# Altium integrated library ST Memory EEPROM Parallel.IntLib: 295 symbols (part 5 of 6)
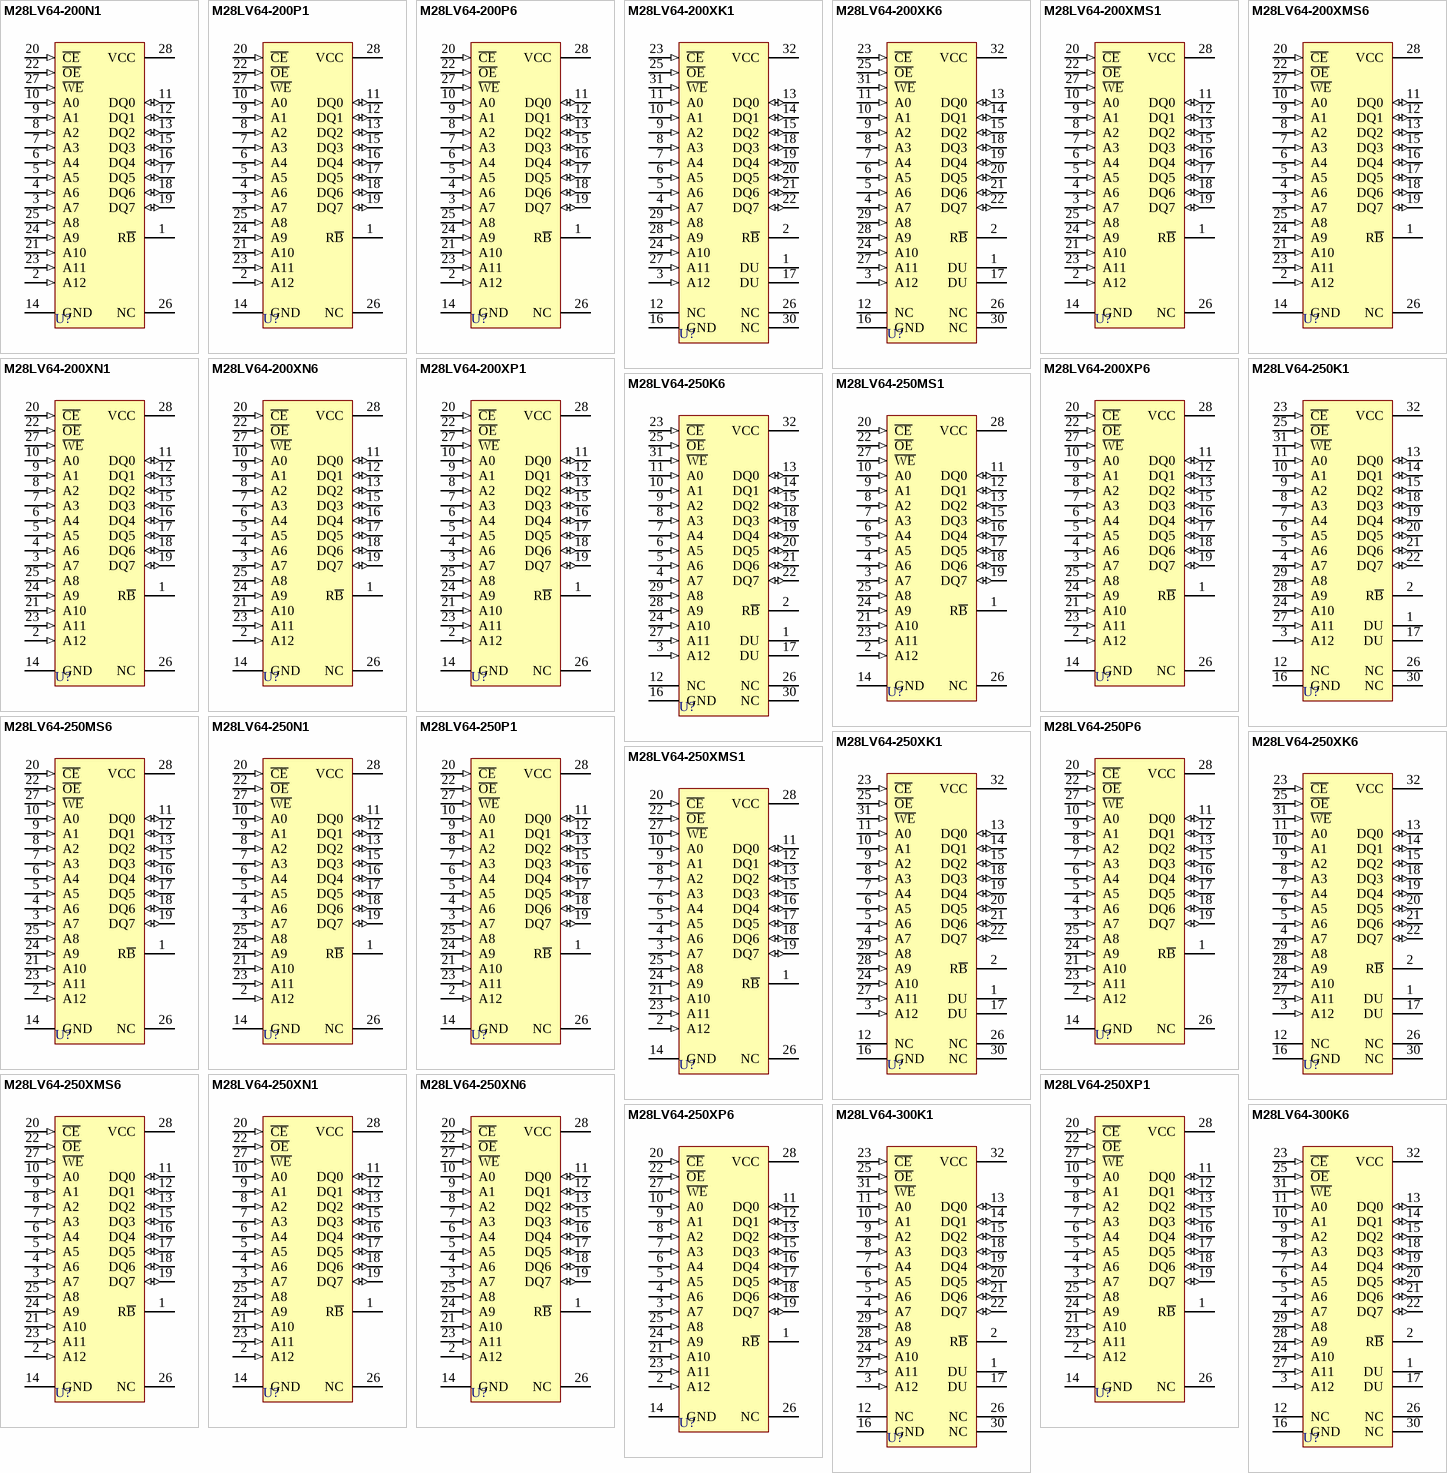
[diagram p14: symbols M28LV64-200N1 to M28LV64-300K6]

## M28LV64-250XK1
designator U?
64K (8K x 8) Low-Voltage Parallel EEPROM with Software Data Protection; Note: Do Not Use pins 1 and 17 (DU).; Published: 24-Aug-2001; LatestRevisionDate: 6-Jun-2005; LatestRevisionNote: Stylized 3D Model Added.; DatasheetDocument: May-1997; PackageDocument: Jun-1998; PackageReference: PLCC32; Publisher: Altium Limited; Code_JEDEC: MS-016-AE; Code_IPC: PLCC/R-32; ComponentLink1Description: Manufacturer Link; ComponentLink1URL: http://www.st.com/
footprint PLCC32 (Leaded Chip Carrier; 32 Leads; Body 11.4 x 14 mm)
3D model M28LV64-PLCC32 (Leaded Chip Carrier; 32 Leads; Body 11.4 x 14 mm)
pins: 1 DU, 2 R~{B}, 3 A12 (in), 4 A7 (in), 5 A6 (in), 6 A5 (in), 7 A4 (in), 8 A3 (in), 9 A2 (in), 10 A1 (in), 11 A0 (in), 12 NC, 13 DQ0 (io), 14 DQ1 (io), 15 DQ2 (io), 16 GND (power), 17 DU, 18 DQ3 (io), 19 DQ4 (io), 20 DQ5 (io), 21 DQ6 (io), 22 DQ7 (io), 23 ~{CE} (in), 24 A10 (in), 25 ~{OE} (in), 26 NC, 27 A11 (in), 28 A9 (in), 29 A8 (in), 30 NC, 31 ~{WE} (in), 32 VCC (power)

## M28LV64-250XK6
designator U?
64K (8K x 8) Low-Voltage Parallel EEPROM with Software Data Protection; Note: Do Not Use pins 1 and 17 (DU).; Published: 24-Aug-2001; LatestRevisionDate: 6-Jun-2005; LatestRevisionNote: Stylized 3D Model Added.; DatasheetDocument: May-1997; PackageDocument: Jun-1998; PackageReference: PLCC32; Publisher: Altium Limited; Code_JEDEC: MS-016-AE; Code_IPC: PLCC/R-32; ComponentLink1Description: Manufacturer Link; ComponentLink1URL: http://www.st.com/
footprint PLCC32 (Leaded Chip Carrier; 32 Leads; Body 11.4 x 14 mm)
3D model M28LV64-PLCC32 (Leaded Chip Carrier; 32 Leads; Body 11.4 x 14 mm)
pins: 1 DU, 2 R~{B}, 3 A12 (in), 4 A7 (in), 5 A6 (in), 6 A5 (in), 7 A4 (in), 8 A3 (in), 9 A2 (in), 10 A1 (in), 11 A0 (in), 12 NC, 13 DQ0 (io), 14 DQ1 (io), 15 DQ2 (io), 16 GND (power), 17 DU, 18 DQ3 (io), 19 DQ4 (io), 20 DQ5 (io), 21 DQ6 (io), 22 DQ7 (io), 23 ~{CE} (in), 24 A10 (in), 25 ~{OE} (in), 26 NC, 27 A11 (in), 28 A9 (in), 29 A8 (in), 30 NC, 31 ~{WE} (in), 32 VCC (power)

## M28LV64-250XMS1
designator U?
64K (8K x 8) Low-Voltage Parallel EEPROM with Software Data Protection; Published: 24-Aug-2001; LatestRevisionDate: 6-Jun-2005; LatestRevisionNote: Stylized 3D Model Added.; DatasheetDocument: May-1997; PackageDocument: Jul-2001; PackageReference: SO28; Publisher: Altium Limited; Code_IPC: SO28W; ComponentLink1Description: Manufacturer Link; ComponentLink1URL: http://www.st.com/
footprint SO28 (Small Outline, Plastic; 28 Leads; Body Width 7.5 mm; Pitch 1.27 mm)
3D model SO28 (Small Outline, Plastic; 28 Leads; Body Width 7.5 mm; Pitch 1.27 mm)
pins: 1 R~{B}, 2 A12 (in), 3 A7 (in), 4 A6 (in), 5 A5 (in), 6 A4 (in), 7 A3 (in), 8 A2 (in), 9 A1 (in), 10 A0 (in), 11 DQ0 (io), 12 DQ1 (io), 13 DQ2 (io), 14 GND (power), 15 DQ3 (io), 16 DQ4 (io), 17 DQ5 (io), 18 DQ6 (io), 19 DQ7 (io), 20 ~{CE} (in), 21 A10 (in), 22 ~{OE} (in), 23 A11 (in), 24 A9 (in), 25 A8 (in), 26 NC, 27 ~{WE} (in), 28 VCC (power)

## M28LV64-250XMS6
designator U?
64K (8K x 8) Low-Voltage Parallel EEPROM with Software Data Protection; Published: 24-Aug-2001; LatestRevisionDate: 6-Jun-2005; LatestRevisionNote: Stylized 3D Model Added.; DatasheetDocument: May-1997; PackageDocument: Jul-2001; PackageReference: SO28; Publisher: Altium Limited; Code_IPC: SO28W; ComponentLink1Description: Manufacturer Link; ComponentLink1URL: http://www.st.com/
footprint SO28 (Small Outline, Plastic; 28 Leads; Body Width 7.5 mm; Pitch 1.27 mm)
3D model SO28 (Small Outline, Plastic; 28 Leads; Body Width 7.5 mm; Pitch 1.27 mm)
pins: 1 R~{B}, 2 A12 (in), 3 A7 (in), 4 A6 (in), 5 A5 (in), 6 A4 (in), 7 A3 (in), 8 A2 (in), 9 A1 (in), 10 A0 (in), 11 DQ0 (io), 12 DQ1 (io), 13 DQ2 (io), 14 GND (power), 15 DQ3 (io), 16 DQ4 (io), 17 DQ5 (io), 18 DQ6 (io), 19 DQ7 (io), 20 ~{CE} (in), 21 A10 (in), 22 ~{OE} (in), 23 A11 (in), 24 A9 (in), 25 A8 (in), 26 NC, 27 ~{WE} (in), 28 VCC (power)

## M28LV64-250XN1
designator U?
64K (8K x 8) Low-Voltage Parallel EEPROM with Software Data Protection; Published: 24-Aug-2001; LatestRevisionDate: 6-Jun-2005; LatestRevisionNote: Stylized 3D Model Added.; DatasheetDocument: May-1997; PackageDocument: Jul-1998; PackageReference: TSOP28; Publisher: Altium Limited; ComponentLink1Description: Manufacturer Link; ComponentLink1URL: http://www.st.com/
footprint TSOP28 (Shrink Small Outline; 28 Leads; Body Width 11.8 mm; Pitch 0.55 mm)
3D model TSOP28 (Shrink Small Outline; 28 Leads; Body Width 11.8 mm; Pitch 0.55 mm)
pins: 1 R~{B}, 2 A12 (in), 3 A7 (in), 4 A6 (in), 5 A5 (in), 6 A4 (in), 7 A3 (in), 8 A2 (in), 9 A1 (in), 10 A0 (in), 11 DQ0 (io), 12 DQ1 (io), 13 DQ2 (io), 14 GND (power), 15 DQ3 (io), 16 DQ4 (io), 17 DQ5 (io), 18 DQ6 (io), 19 DQ7 (io), 20 ~{CE} (in), 21 A10 (in), 22 ~{OE} (in), 23 A11 (in), 24 A9 (in), 25 A8 (in), 26 NC, 27 ~{WE} (in), 28 VCC (power)

## M28LV64-250XN6
designator U?
64K (8K x 8) Low-Voltage Parallel EEPROM with Software Data Protection; Published: 24-Aug-2001; LatestRevisionDate: 6-Jun-2005; LatestRevisionNote: Stylized 3D Model Added.; DatasheetDocument: May-1997; PackageDocument: Jul-1998; PackageReference: TSOP28; Publisher: Altium Limited; ComponentLink1Description: Manufacturer Link; ComponentLink1URL: http://www.st.com/
footprint TSOP28 (Shrink Small Outline; 28 Leads; Body Width 11.8 mm; Pitch 0.55 mm)
3D model TSOP28 (Shrink Small Outline; 28 Leads; Body Width 11.8 mm; Pitch 0.55 mm)
pins: 1 R~{B}, 2 A12 (in), 3 A7 (in), 4 A6 (in), 5 A5 (in), 6 A4 (in), 7 A3 (in), 8 A2 (in), 9 A1 (in), 10 A0 (in), 11 DQ0 (io), 12 DQ1 (io), 13 DQ2 (io), 14 GND (power), 15 DQ3 (io), 16 DQ4 (io), 17 DQ5 (io), 18 DQ6 (io), 19 DQ7 (io), 20 ~{CE} (in), 21 A10 (in), 22 ~{OE} (in), 23 A11 (in), 24 A9 (in), 25 A8 (in), 26 NC, 27 ~{WE} (in), 28 VCC (power)

## M28LV64-250XP1
designator U?
64K (8K x 8) Low-Voltage Parallel EEPROM with Software Data Protection; Published: 24-Aug-2001; LatestRevisionDate: 6-Jun-2005; LatestRevisionNote: Stylized 3D Model Added.; DatasheetDocument: May-1997; PackageDocument: Jan-2003; PackageReference: PDIP28; Publisher: Altium Limited; ComponentLink1Description: Manufacturer Link; ComponentLink1URL: http://www.st.com/
footprint PDIP28 (DIP; 28 Leads; Row Spacing 15.24 mm; Pitch 2.54 mm)
3D model PDIP28 (DIP; 28 Leads; Row Spacing 15.24 mm; Pitch 2.54 mm)
pins: 1 R~{B}, 2 A12 (in), 3 A7 (in), 4 A6 (in), 5 A5 (in), 6 A4 (in), 7 A3 (in), 8 A2 (in), 9 A1 (in), 10 A0 (in), 11 DQ0 (io), 12 DQ1 (io), 13 DQ2 (io), 14 GND (power), 15 DQ3 (io), 16 DQ4 (io), 17 DQ5 (io), 18 DQ6 (io), 19 DQ7 (io), 20 ~{CE} (in), 21 A10 (in), 22 ~{OE} (in), 23 A11 (in), 24 A9 (in), 25 A8 (in), 26 NC, 27 ~{WE} (in), 28 VCC (power)

## M28LV64-250XP6
designator U?
64K (8K x 8) Low-Voltage Parallel EEPROM with Software Data Protection; Published: 24-Aug-2001; LatestRevisionDate: 6-Jun-2005; LatestRevisionNote: Stylized 3D Model Added.; DatasheetDocument: May-1997; PackageDocument: Jan-2003; PackageReference: PDIP28; Publisher: Altium Limited; ComponentLink1Description: Manufacturer Link; ComponentLink1URL: http://www.st.com/
footprint PDIP28 (DIP; 28 Leads; Row Spacing 15.24 mm; Pitch 2.54 mm)
3D model PDIP28 (DIP; 28 Leads; Row Spacing 15.24 mm; Pitch 2.54 mm)
pins: 1 R~{B}, 2 A12 (in), 3 A7 (in), 4 A6 (in), 5 A5 (in), 6 A4 (in), 7 A3 (in), 8 A2 (in), 9 A1 (in), 10 A0 (in), 11 DQ0 (io), 12 DQ1 (io), 13 DQ2 (io), 14 GND (power), 15 DQ3 (io), 16 DQ4 (io), 17 DQ5 (io), 18 DQ6 (io), 19 DQ7 (io), 20 ~{CE} (in), 21 A10 (in), 22 ~{OE} (in), 23 A11 (in), 24 A9 (in), 25 A8 (in), 26 NC, 27 ~{WE} (in), 28 VCC (power)

## M28LV64-300K1
designator U?
64K (8K x 8) Low-Voltage Parallel EEPROM with Software Data Protection; Note: Do Not Use pins 1 and 17 (DU).; Published: 24-Aug-2001; LatestRevisionDate: 6-Jun-2005; LatestRevisionNote: Stylized 3D Model Added.; DatasheetDocument: May-1997; PackageDocument: Jun-1998; PackageReference: PLCC32; Publisher: Altium Limited; Code_JEDEC: MS-016-AE; Code_IPC: PLCC/R-32; ComponentLink1Description: Manufacturer Link; ComponentLink1URL: http://www.st.com/
footprint PLCC32 (Leaded Chip Carrier; 32 Leads; Body 11.4 x 14 mm)
3D model M28LV64-PLCC32 (Leaded Chip Carrier; 32 Leads; Body 11.4 x 14 mm)
pins: 1 DU, 2 R~{B}, 3 A12 (in), 4 A7 (in), 5 A6 (in), 6 A5 (in), 7 A4 (in), 8 A3 (in), 9 A2 (in), 10 A1 (in), 11 A0 (in), 12 NC, 13 DQ0 (io), 14 DQ1 (io), 15 DQ2 (io), 16 GND (power), 17 DU, 18 DQ3 (io), 19 DQ4 (io), 20 DQ5 (io), 21 DQ6 (io), 22 DQ7 (io), 23 ~{CE} (in), 24 A10 (in), 25 ~{OE} (in), 26 NC, 27 A11 (in), 28 A9 (in), 29 A8 (in), 30 NC, 31 ~{WE} (in), 32 VCC (power)

## M28LV64-300K6
designator U?
64K (8K x 8) Low-Voltage Parallel EEPROM with Software Data Protection; Note: Do Not Use pins 1 and 17 (DU).; Published: 24-Aug-2001; LatestRevisionDate: 6-Jun-2005; LatestRevisionNote: Stylized 3D Model Added.; DatasheetDocument: May-1997; PackageDocument: Jun-1998; PackageReference: PLCC32; Publisher: Altium Limited; Code_JEDEC: MS-016-AE; Code_IPC: PLCC/R-32; ComponentLink1Description: Manufacturer Link; ComponentLink1URL: http://www.st.com/
footprint PLCC32 (Leaded Chip Carrier; 32 Leads; Body 11.4 x 14 mm)
3D model M28LV64-PLCC32 (Leaded Chip Carrier; 32 Leads; Body 11.4 x 14 mm)
pins: 1 DU, 2 R~{B}, 3 A12 (in), 4 A7 (in), 5 A6 (in), 6 A5 (in), 7 A4 (in), 8 A3 (in), 9 A2 (in), 10 A1 (in), 11 A0 (in), 12 NC, 13 DQ0 (io), 14 DQ1 (io), 15 DQ2 (io), 16 GND (power), 17 DU, 18 DQ3 (io), 19 DQ4 (io), 20 DQ5 (io), 21 DQ6 (io), 22 DQ7 (io), 23 ~{CE} (in), 24 A10 (in), 25 ~{OE} (in), 26 NC, 27 A11 (in), 28 A9 (in), 29 A8 (in), 30 NC, 31 ~{WE} (in), 32 VCC (power)

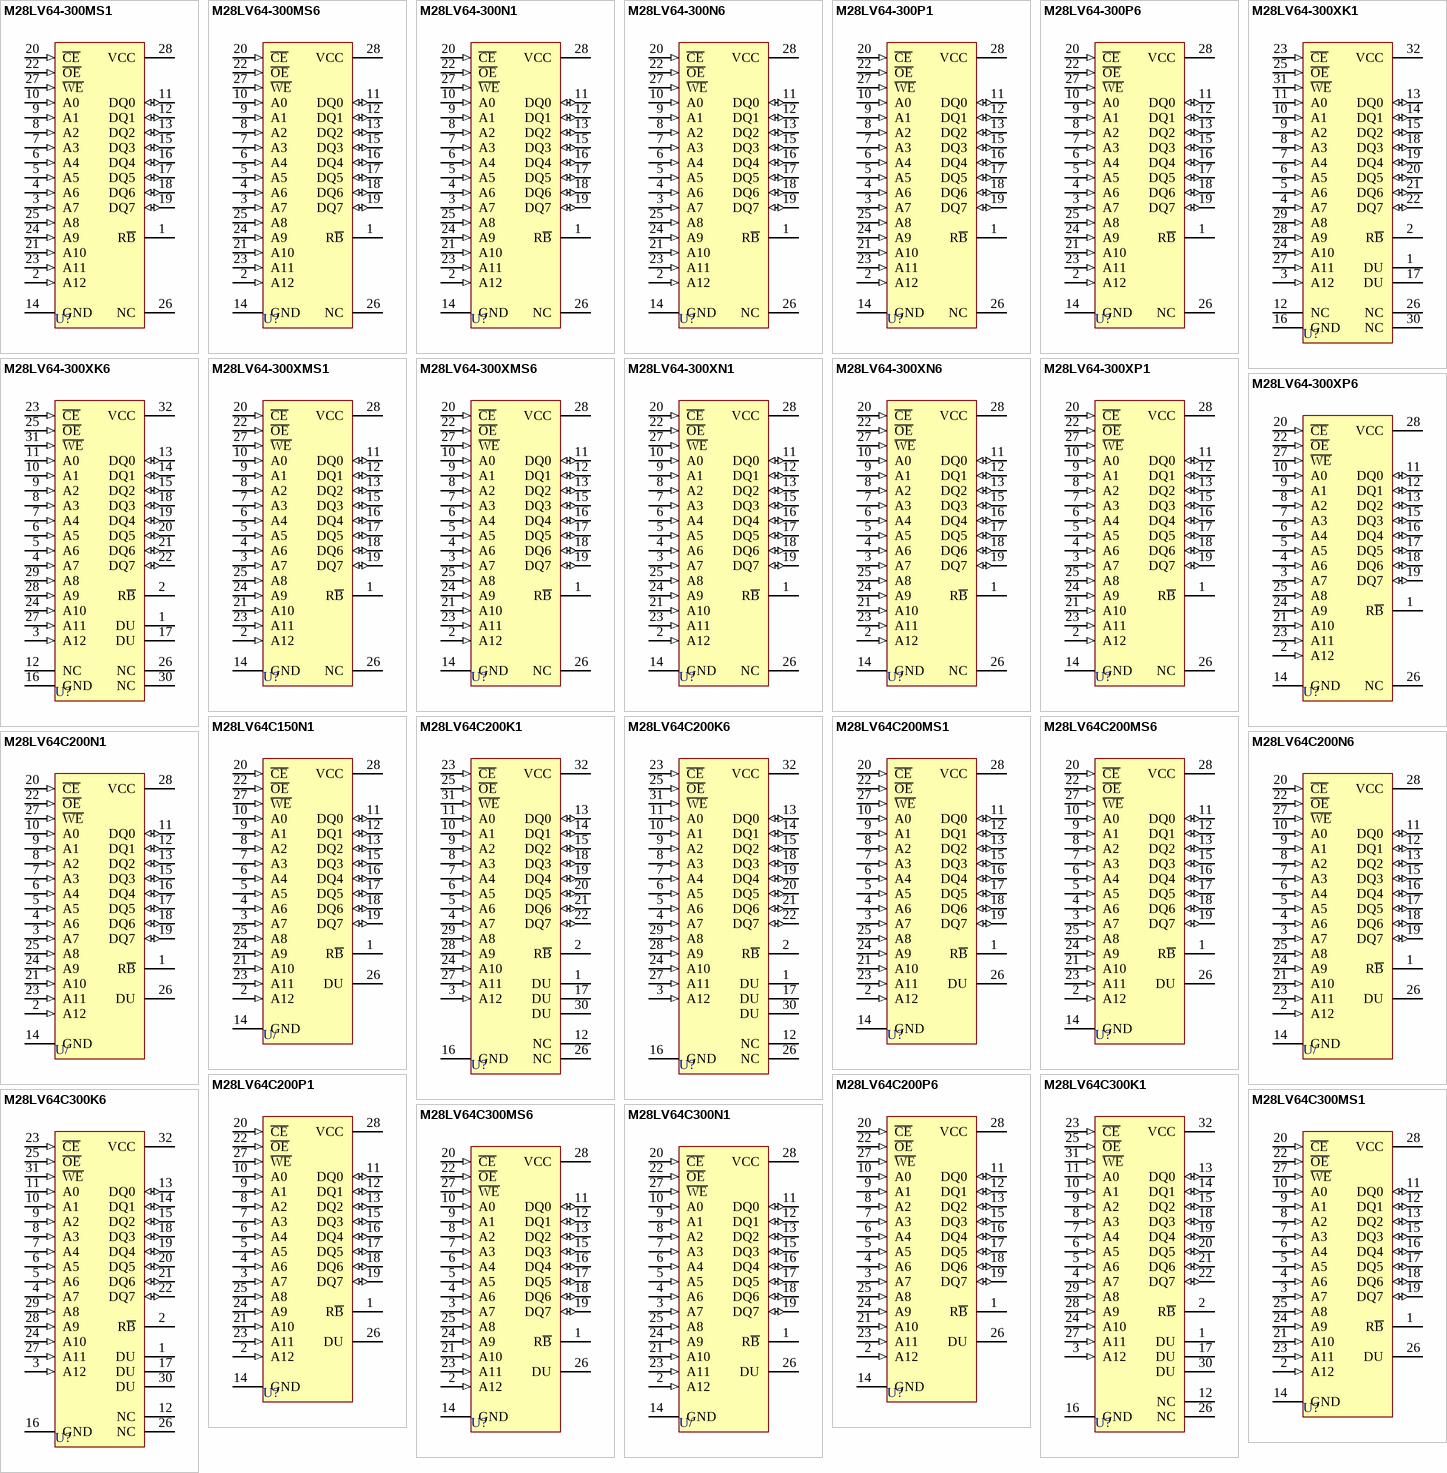
[diagram p8: symbols M28LV64-300MS1 to M28LV64C300N1]

## M28LV64-300MS1
designator U?
64K (8K x 8) Low-Voltage Parallel EEPROM with Software Data Protection; Published: 24-Aug-2001; LatestRevisionDate: 6-Jun-2005; LatestRevisionNote: Stylized 3D Model Added.; DatasheetDocument: May-1997; PackageDocument: Jul-2001; PackageReference: SO28; Publisher: Altium Limited; Code_IPC: SO28W; ComponentLink1Description: Manufacturer Link; ComponentLink1URL: http://www.st.com/
footprint SO28 (Small Outline, Plastic; 28 Leads; Body Width 7.5 mm; Pitch 1.27 mm)
3D model SO28 (Small Outline, Plastic; 28 Leads; Body Width 7.5 mm; Pitch 1.27 mm)
pins: 1 R~{B}, 2 A12 (in), 3 A7 (in), 4 A6 (in), 5 A5 (in), 6 A4 (in), 7 A3 (in), 8 A2 (in), 9 A1 (in), 10 A0 (in), 11 DQ0 (io), 12 DQ1 (io), 13 DQ2 (io), 14 GND (power), 15 DQ3 (io), 16 DQ4 (io), 17 DQ5 (io), 18 DQ6 (io), 19 DQ7 (io), 20 ~{CE} (in), 21 A10 (in), 22 ~{OE} (in), 23 A11 (in), 24 A9 (in), 25 A8 (in), 26 NC, 27 ~{WE} (in), 28 VCC (power)

## M28LV64-300MS6
designator U?
64K (8K x 8) Low-Voltage Parallel EEPROM with Software Data Protection; Published: 24-Aug-2001; LatestRevisionDate: 6-Jun-2005; LatestRevisionNote: Stylized 3D Model Added.; DatasheetDocument: May-1997; PackageDocument: Jul-2001; PackageReference: SO28; Publisher: Altium Limited; Code_IPC: SO28W; ComponentLink1Description: Manufacturer Link; ComponentLink1URL: http://www.st.com/
footprint SO28 (Small Outline, Plastic; 28 Leads; Body Width 7.5 mm; Pitch 1.27 mm)
3D model SO28 (Small Outline, Plastic; 28 Leads; Body Width 7.5 mm; Pitch 1.27 mm)
pins: 1 R~{B}, 2 A12 (in), 3 A7 (in), 4 A6 (in), 5 A5 (in), 6 A4 (in), 7 A3 (in), 8 A2 (in), 9 A1 (in), 10 A0 (in), 11 DQ0 (io), 12 DQ1 (io), 13 DQ2 (io), 14 GND (power), 15 DQ3 (io), 16 DQ4 (io), 17 DQ5 (io), 18 DQ6 (io), 19 DQ7 (io), 20 ~{CE} (in), 21 A10 (in), 22 ~{OE} (in), 23 A11 (in), 24 A9 (in), 25 A8 (in), 26 NC, 27 ~{WE} (in), 28 VCC (power)

## M28LV64-300N1
designator U?
64K (8K x 8) Low-Voltage Parallel EEPROM with Software Data Protection; Published: 24-Aug-2001; LatestRevisionDate: 6-Jun-2005; LatestRevisionNote: Stylized 3D Model Added.; DatasheetDocument: May-1997; PackageDocument: Jul-1998; PackageReference: TSOP28; Publisher: Altium Limited; ComponentLink1Description: Manufacturer Link; ComponentLink1URL: http://www.st.com/
footprint TSOP28 (Shrink Small Outline; 28 Leads; Body Width 11.8 mm; Pitch 0.55 mm)
3D model TSOP28 (Shrink Small Outline; 28 Leads; Body Width 11.8 mm; Pitch 0.55 mm)
pins: 1 R~{B}, 2 A12 (in), 3 A7 (in), 4 A6 (in), 5 A5 (in), 6 A4 (in), 7 A3 (in), 8 A2 (in), 9 A1 (in), 10 A0 (in), 11 DQ0 (io), 12 DQ1 (io), 13 DQ2 (io), 14 GND (power), 15 DQ3 (io), 16 DQ4 (io), 17 DQ5 (io), 18 DQ6 (io), 19 DQ7 (io), 20 ~{CE} (in), 21 A10 (in), 22 ~{OE} (in), 23 A11 (in), 24 A9 (in), 25 A8 (in), 26 NC, 27 ~{WE} (in), 28 VCC (power)

## M28LV64-300N6
designator U?
64K (8K x 8) Low-Voltage Parallel EEPROM with Software Data Protection; Published: 24-Aug-2001; LatestRevisionDate: 6-Jun-2005; LatestRevisionNote: Stylized 3D Model Added.; DatasheetDocument: May-1997; PackageDocument: Jul-1998; PackageReference: TSOP28; Publisher: Altium Limited; ComponentLink1Description: Manufacturer Link; ComponentLink1URL: http://www.st.com/
footprint TSOP28 (Shrink Small Outline; 28 Leads; Body Width 11.8 mm; Pitch 0.55 mm)
3D model TSOP28 (Shrink Small Outline; 28 Leads; Body Width 11.8 mm; Pitch 0.55 mm)
pins: 1 R~{B}, 2 A12 (in), 3 A7 (in), 4 A6 (in), 5 A5 (in), 6 A4 (in), 7 A3 (in), 8 A2 (in), 9 A1 (in), 10 A0 (in), 11 DQ0 (io), 12 DQ1 (io), 13 DQ2 (io), 14 GND (power), 15 DQ3 (io), 16 DQ4 (io), 17 DQ5 (io), 18 DQ6 (io), 19 DQ7 (io), 20 ~{CE} (in), 21 A10 (in), 22 ~{OE} (in), 23 A11 (in), 24 A9 (in), 25 A8 (in), 26 NC, 27 ~{WE} (in), 28 VCC (power)

## M28LV64-300P1
designator U?
64K (8K x 8) Low-Voltage Parallel EEPROM with Software Data Protection; Published: 24-Aug-2001; LatestRevisionDate: 6-Jun-2005; LatestRevisionNote: Stylized 3D Model Added.; DatasheetDocument: May-1997; PackageDocument: Jan-2003; PackageReference: PDIP28; Publisher: Altium Limited; ComponentLink1Description: Manufacturer Link; ComponentLink1URL: http://www.st.com/
footprint PDIP28 (DIP; 28 Leads; Row Spacing 15.24 mm; Pitch 2.54 mm)
3D model PDIP28 (DIP; 28 Leads; Row Spacing 15.24 mm; Pitch 2.54 mm)
pins: 1 R~{B}, 2 A12 (in), 3 A7 (in), 4 A6 (in), 5 A5 (in), 6 A4 (in), 7 A3 (in), 8 A2 (in), 9 A1 (in), 10 A0 (in), 11 DQ0 (io), 12 DQ1 (io), 13 DQ2 (io), 14 GND (power), 15 DQ3 (io), 16 DQ4 (io), 17 DQ5 (io), 18 DQ6 (io), 19 DQ7 (io), 20 ~{CE} (in), 21 A10 (in), 22 ~{OE} (in), 23 A11 (in), 24 A9 (in), 25 A8 (in), 26 NC, 27 ~{WE} (in), 28 VCC (power)

## M28LV64-300P6
designator U?
64K (8K x 8) Low-Voltage Parallel EEPROM with Software Data Protection; Published: 24-Aug-2001; LatestRevisionDate: 6-Jun-2005; LatestRevisionNote: Stylized 3D Model Added.; DatasheetDocument: May-1997; PackageDocument: Jan-2003; PackageReference: PDIP28; Publisher: Altium Limited; ComponentLink1Description: Manufacturer Link; ComponentLink1URL: http://www.st.com/
footprint PDIP28 (DIP; 28 Leads; Row Spacing 15.24 mm; Pitch 2.54 mm)
3D model PDIP28 (DIP; 28 Leads; Row Spacing 15.24 mm; Pitch 2.54 mm)
pins: 1 R~{B}, 2 A12 (in), 3 A7 (in), 4 A6 (in), 5 A5 (in), 6 A4 (in), 7 A3 (in), 8 A2 (in), 9 A1 (in), 10 A0 (in), 11 DQ0 (io), 12 DQ1 (io), 13 DQ2 (io), 14 GND (power), 15 DQ3 (io), 16 DQ4 (io), 17 DQ5 (io), 18 DQ6 (io), 19 DQ7 (io), 20 ~{CE} (in), 21 A10 (in), 22 ~{OE} (in), 23 A11 (in), 24 A9 (in), 25 A8 (in), 26 NC, 27 ~{WE} (in), 28 VCC (power)

## M28LV64-300XK1
designator U?
64K (8K x 8) Low-Voltage Parallel EEPROM with Software Data Protection; Note: Do Not Use pins 1 and 17 (DU).; Published: 24-Aug-2001; LatestRevisionDate: 6-Jun-2005; LatestRevisionNote: Stylized 3D Model Added.; DatasheetDocument: May-1997; PackageDocument: Jun-1998; PackageReference: PLCC32; Publisher: Altium Limited; Code_JEDEC: MS-016-AE; Code_IPC: PLCC/R-32; ComponentLink1Description: Manufacturer Link; ComponentLink1URL: http://www.st.com/
footprint PLCC32 (Leaded Chip Carrier; 32 Leads; Body 11.4 x 14 mm)
3D model M28LV64-PLCC32 (Leaded Chip Carrier; 32 Leads; Body 11.4 x 14 mm)
pins: 1 DU, 2 R~{B}, 3 A12 (in), 4 A7 (in), 5 A6 (in), 6 A5 (in), 7 A4 (in), 8 A3 (in), 9 A2 (in), 10 A1 (in), 11 A0 (in), 12 NC, 13 DQ0 (io), 14 DQ1 (io), 15 DQ2 (io), 16 GND (power), 17 DU, 18 DQ3 (io), 19 DQ4 (io), 20 DQ5 (io), 21 DQ6 (io), 22 DQ7 (io), 23 ~{CE} (in), 24 A10 (in), 25 ~{OE} (in), 26 NC, 27 A11 (in), 28 A9 (in), 29 A8 (in), 30 NC, 31 ~{WE} (in), 32 VCC (power)

## M28LV64-300XK6
designator U?
64K (8K x 8) Low-Voltage Parallel EEPROM with Software Data Protection; Note: Do Not Use pins 1 and 17 (DU).; Published: 24-Aug-2001; LatestRevisionDate: 6-Jun-2005; LatestRevisionNote: Stylized 3D Model Added.; DatasheetDocument: May-1997; PackageDocument: Jun-1998; PackageReference: PLCC32; Publisher: Altium Limited; Code_JEDEC: MS-016-AE; Code_IPC: PLCC/R-32; ComponentLink1Description: Manufacturer Link; ComponentLink1URL: http://www.st.com/
footprint PLCC32 (Leaded Chip Carrier; 32 Leads; Body 11.4 x 14 mm)
3D model M28LV64-PLCC32 (Leaded Chip Carrier; 32 Leads; Body 11.4 x 14 mm)
pins: 1 DU, 2 R~{B}, 3 A12 (in), 4 A7 (in), 5 A6 (in), 6 A5 (in), 7 A4 (in), 8 A3 (in), 9 A2 (in), 10 A1 (in), 11 A0 (in), 12 NC, 13 DQ0 (io), 14 DQ1 (io), 15 DQ2 (io), 16 GND (power), 17 DU, 18 DQ3 (io), 19 DQ4 (io), 20 DQ5 (io), 21 DQ6 (io), 22 DQ7 (io), 23 ~{CE} (in), 24 A10 (in), 25 ~{OE} (in), 26 NC, 27 A11 (in), 28 A9 (in), 29 A8 (in), 30 NC, 31 ~{WE} (in), 32 VCC (power)

## M28LV64-300XMS1
designator U?
64K (8K x 8) Low-Voltage Parallel EEPROM with Software Data Protection; Published: 24-Aug-2001; LatestRevisionDate: 6-Jun-2005; LatestRevisionNote: Stylized 3D Model Added.; DatasheetDocument: May-1997; PackageDocument: Jul-2001; PackageReference: SO28; Publisher: Altium Limited; Code_IPC: SO28W; ComponentLink1Description: Manufacturer Link; ComponentLink1URL: http://www.st.com/
footprint SO28 (Small Outline, Plastic; 28 Leads; Body Width 7.5 mm; Pitch 1.27 mm)
3D model SO28 (Small Outline, Plastic; 28 Leads; Body Width 7.5 mm; Pitch 1.27 mm)
pins: 1 R~{B}, 2 A12 (in), 3 A7 (in), 4 A6 (in), 5 A5 (in), 6 A4 (in), 7 A3 (in), 8 A2 (in), 9 A1 (in), 10 A0 (in), 11 DQ0 (io), 12 DQ1 (io), 13 DQ2 (io), 14 GND (power), 15 DQ3 (io), 16 DQ4 (io), 17 DQ5 (io), 18 DQ6 (io), 19 DQ7 (io), 20 ~{CE} (in), 21 A10 (in), 22 ~{OE} (in), 23 A11 (in), 24 A9 (in), 25 A8 (in), 26 NC, 27 ~{WE} (in), 28 VCC (power)

## M28LV64-300XMS6
designator U?
64K (8K x 8) Low-Voltage Parallel EEPROM with Software Data Protection; Published: 24-Aug-2001; LatestRevisionDate: 6-Jun-2005; LatestRevisionNote: Stylized 3D Model Added.; DatasheetDocument: May-1997; PackageDocument: Jul-2001; PackageReference: SO28; Publisher: Altium Limited; Code_IPC: SO28W; ComponentLink1Description: Manufacturer Link; ComponentLink1URL: http://www.st.com/
footprint SO28 (Small Outline, Plastic; 28 Leads; Body Width 7.5 mm; Pitch 1.27 mm)
3D model SO28 (Small Outline, Plastic; 28 Leads; Body Width 7.5 mm; Pitch 1.27 mm)
pins: 1 R~{B}, 2 A12 (in), 3 A7 (in), 4 A6 (in), 5 A5 (in), 6 A4 (in), 7 A3 (in), 8 A2 (in), 9 A1 (in), 10 A0 (in), 11 DQ0 (io), 12 DQ1 (io), 13 DQ2 (io), 14 GND (power), 15 DQ3 (io), 16 DQ4 (io), 17 DQ5 (io), 18 DQ6 (io), 19 DQ7 (io), 20 ~{CE} (in), 21 A10 (in), 22 ~{OE} (in), 23 A11 (in), 24 A9 (in), 25 A8 (in), 26 NC, 27 ~{WE} (in), 28 VCC (power)

## M28LV64-300XN1
designator U?
64K (8K x 8) Low-Voltage Parallel EEPROM with Software Data Protection; Published: 24-Aug-2001; LatestRevisionDate: 6-Jun-2005; LatestRevisionNote: Stylized 3D Model Added.; DatasheetDocument: May-1997; PackageDocument: Jul-1998; PackageReference: TSOP28; Publisher: Altium Limited; ComponentLink1Description: Manufacturer Link; ComponentLink1URL: http://www.st.com/
footprint TSOP28 (Shrink Small Outline; 28 Leads; Body Width 11.8 mm; Pitch 0.55 mm)
3D model TSOP28 (Shrink Small Outline; 28 Leads; Body Width 11.8 mm; Pitch 0.55 mm)
pins: 1 R~{B}, 2 A12 (in), 3 A7 (in), 4 A6 (in), 5 A5 (in), 6 A4 (in), 7 A3 (in), 8 A2 (in), 9 A1 (in), 10 A0 (in), 11 DQ0 (io), 12 DQ1 (io), 13 DQ2 (io), 14 GND (power), 15 DQ3 (io), 16 DQ4 (io), 17 DQ5 (io), 18 DQ6 (io), 19 DQ7 (io), 20 ~{CE} (in), 21 A10 (in), 22 ~{OE} (in), 23 A11 (in), 24 A9 (in), 25 A8 (in), 26 NC, 27 ~{WE} (in), 28 VCC (power)

## M28LV64-300XN6
designator U?
64K (8K x 8) Low-Voltage Parallel EEPROM with Software Data Protection; Published: 24-Aug-2001; LatestRevisionDate: 6-Jun-2005; LatestRevisionNote: Stylized 3D Model Added.; DatasheetDocument: May-1997; PackageDocument: Jul-1998; PackageReference: TSOP28; Publisher: Altium Limited; ComponentLink1Description: Manufacturer Link; ComponentLink1URL: http://www.st.com/
footprint TSOP28 (Shrink Small Outline; 28 Leads; Body Width 11.8 mm; Pitch 0.55 mm)
3D model TSOP28 (Shrink Small Outline; 28 Leads; Body Width 11.8 mm; Pitch 0.55 mm)
pins: 1 R~{B}, 2 A12 (in), 3 A7 (in), 4 A6 (in), 5 A5 (in), 6 A4 (in), 7 A3 (in), 8 A2 (in), 9 A1 (in), 10 A0 (in), 11 DQ0 (io), 12 DQ1 (io), 13 DQ2 (io), 14 GND (power), 15 DQ3 (io), 16 DQ4 (io), 17 DQ5 (io), 18 DQ6 (io), 19 DQ7 (io), 20 ~{CE} (in), 21 A10 (in), 22 ~{OE} (in), 23 A11 (in), 24 A9 (in), 25 A8 (in), 26 NC, 27 ~{WE} (in), 28 VCC (power)

## M28LV64-300XP1
designator U?
64K (8K x 8) Low-Voltage Parallel EEPROM with Software Data Protection; Published: 24-Aug-2001; LatestRevisionDate: 6-Jun-2005; LatestRevisionNote: Stylized 3D Model Added.; DatasheetDocument: May-1997; PackageDocument: Jan-2003; PackageReference: PDIP28; Publisher: Altium Limited; ComponentLink1Description: Manufacturer Link; ComponentLink1URL: http://www.st.com/
footprint PDIP28 (DIP; 28 Leads; Row Spacing 15.24 mm; Pitch 2.54 mm)
3D model PDIP28 (DIP; 28 Leads; Row Spacing 15.24 mm; Pitch 2.54 mm)
pins: 1 R~{B}, 2 A12 (in), 3 A7 (in), 4 A6 (in), 5 A5 (in), 6 A4 (in), 7 A3 (in), 8 A2 (in), 9 A1 (in), 10 A0 (in), 11 DQ0 (io), 12 DQ1 (io), 13 DQ2 (io), 14 GND (power), 15 DQ3 (io), 16 DQ4 (io), 17 DQ5 (io), 18 DQ6 (io), 19 DQ7 (io), 20 ~{CE} (in), 21 A10 (in), 22 ~{OE} (in), 23 A11 (in), 24 A9 (in), 25 A8 (in), 26 NC, 27 ~{WE} (in), 28 VCC (power)

## M28LV64-300XP6
designator U?
64K (8K x 8) Low-Voltage Parallel EEPROM with Software Data Protection; Published: 24-Aug-2001; LatestRevisionDate: 6-Jun-2005; LatestRevisionNote: Stylized 3D Model Added.; DatasheetDocument: May-1997; PackageDocument: Jan-2003; PackageReference: PDIP28; Publisher: Altium Limited; ComponentLink1Description: Manufacturer Link; ComponentLink1URL: http://www.st.com/
footprint PDIP28 (DIP; 28 Leads; Row Spacing 15.24 mm; Pitch 2.54 mm)
3D model PDIP28 (DIP; 28 Leads; Row Spacing 15.24 mm; Pitch 2.54 mm)
pins: 1 R~{B}, 2 A12 (in), 3 A7 (in), 4 A6 (in), 5 A5 (in), 6 A4 (in), 7 A3 (in), 8 A2 (in), 9 A1 (in), 10 A0 (in), 11 DQ0 (io), 12 DQ1 (io), 13 DQ2 (io), 14 GND (power), 15 DQ3 (io), 16 DQ4 (io), 17 DQ5 (io), 18 DQ6 (io), 19 DQ7 (io), 20 ~{CE} (in), 21 A10 (in), 22 ~{OE} (in), 23 A11 (in), 24 A9 (in), 25 A8 (in), 26 NC, 27 ~{WE} (in), 28 VCC (power)

## M28LV64C150N1
designator U/
Low-Voltage Parallel Access 64K (8K x 8) EEPROM; Note: Do Not Use pin number 26 (DU).; Published: 24-Aug-2001; LatestRevisionDate: 6-Jun-2005; LatestRevisionNote: Stylized 3D Model Added.; DatasheetDocument: Jun-1995; PackageDocument: Jul-1998; PackageReference: TSOP28; Publisher: Altium Limited; ComponentLink1Description: Manufacturer Link; ComponentLink1URL: http://www.st.com/
footprint TSOP28 (Shrink Small Outline; 28 Leads; Body Width 11.8 mm; Pitch 0.55 mm)
3D model TSOP28 (Shrink Small Outline; 28 Leads; Body Width 11.8 mm; Pitch 0.55 mm)
pins: 1 R~{B}, 2 A12 (in), 3 A7 (in), 4 A6 (in), 5 A5 (in), 6 A4 (in), 7 A3 (in), 8 A2 (in), 9 A1 (in), 10 A0 (in), 11 DQ0 (io), 12 DQ1 (io), 13 DQ2 (io), 14 GND (power), 15 DQ3 (io), 16 DQ4 (io), 17 DQ5 (io), 18 DQ6 (io), 19 DQ7 (io), 20 ~{CE} (in), 21 A10 (in), 22 ~{OE} (in), 23 A11 (in), 24 A9 (in), 25 A8 (in), 26 DU, 27 ~{WE} (in), 28 VCC (power)

## M28LV64C200K1
designator U?
Low-Voltage Parallel Access 64K (8K x 8) EEPROM; Note: Do Not Use pins 1, 17 and 30 (DU).; Published: 24-Aug-2001; LatestRevisionDate: 6-Jun-2005; LatestRevisionNote: Stylized 3D Model Added.; DatasheetDocument: Jun-1995; PackageDocument: Jun-1998; PackageReference: PLCC32; Publisher: Altium Limited; Code_JEDEC: MS-016-AE; Code_IPC: PLCC/R-32; ComponentLink1Description: Manufacturer Link; ComponentLink1URL: http://www.st.com/
footprint PLCC32 (Leaded Chip Carrier; 32 Leads; Body 11.4 x 14 mm)
3D model M28LV64-PLCC32 (Leaded Chip Carrier; 32 Leads; Body 11.4 x 14 mm)
pins: 1 DU, 2 R~{B}, 3 A12 (in), 4 A7 (in), 5 A6 (in), 6 A5 (in), 7 A4 (in), 8 A3 (in), 9 A2 (in), 10 A1 (in), 11 A0 (in), 12 NC, 13 DQ0 (io), 14 DQ1 (io), 15 DQ2 (io), 16 GND (power), 17 DU, 18 DQ3 (io), 19 DQ4 (io), 20 DQ5 (io), 21 DQ6 (io), 22 DQ7 (io), 23 ~{CE} (in), 24 A10 (in), 25 ~{OE} (in), 26 NC, 27 A11 (in), 28 A9 (in), 29 A8 (in), 30 DU, 31 ~{WE} (in), 32 VCC (power)

## M28LV64C200K6
designator U?
Low-Voltage Parallel Access 64K (8K x 8) EEPROM; Note: Do Not Use pins 1, 17 and 30 (DU).; Published: 24-Aug-2001; LatestRevisionDate: 6-Jun-2005; LatestRevisionNote: Stylized 3D Model Added.; DatasheetDocument: Jun-1995; PackageDocument: Jun-1998; PackageReference: PLCC32; Publisher: Altium Limited; Code_JEDEC: MS-016-AE; Code_IPC: PLCC/R-32; ComponentLink1Description: Manufacturer Link; ComponentLink1URL: http://www.st.com/
footprint PLCC32 (Leaded Chip Carrier; 32 Leads; Body 11.4 x 14 mm)
3D model M28LV64-PLCC32 (Leaded Chip Carrier; 32 Leads; Body 11.4 x 14 mm)
pins: 1 DU, 2 R~{B}, 3 A12 (in), 4 A7 (in), 5 A6 (in), 6 A5 (in), 7 A4 (in), 8 A3 (in), 9 A2 (in), 10 A1 (in), 11 A0 (in), 12 NC, 13 DQ0 (io), 14 DQ1 (io), 15 DQ2 (io), 16 GND (power), 17 DU, 18 DQ3 (io), 19 DQ4 (io), 20 DQ5 (io), 21 DQ6 (io), 22 DQ7 (io), 23 ~{CE} (in), 24 A10 (in), 25 ~{OE} (in), 26 NC, 27 A11 (in), 28 A9 (in), 29 A8 (in), 30 DU, 31 ~{WE} (in), 32 VCC (power)

## M28LV64C200MS1
designator U?
Low-Voltage Parallel Access 64K (8K x 8) EEPROM; Note: Do Not Use pin number 26 (DU).; Published: 24-Aug-2001; LatestRevisionDate: 6-Jun-2005; LatestRevisionNote: Stylized 3D Model Added.; DatasheetDocument: Jun-1995; PackageDocument: Jul-2001; PackageReference: SO28; Publisher: Altium Limited; Code_IPC: SO28W; ComponentLink1Description: Manufacturer Link; ComponentLink1URL: http://www.st.com/
footprint SO28 (Small Outline, Plastic; 28 Leads; Body Width 7.5 mm; Pitch 1.27 mm)
3D model SO28 (Small Outline, Plastic; 28 Leads; Body Width 7.5 mm; Pitch 1.27 mm)
pins: 1 R~{B}, 2 A12 (in), 3 A7 (in), 4 A6 (in), 5 A5 (in), 6 A4 (in), 7 A3 (in), 8 A2 (in), 9 A1 (in), 10 A0 (in), 11 DQ0 (io), 12 DQ1 (io), 13 DQ2 (io), 14 GND (power), 15 DQ3 (io), 16 DQ4 (io), 17 DQ5 (io), 18 DQ6 (io), 19 DQ7 (io), 20 ~{CE} (in), 21 A10 (in), 22 ~{OE} (in), 23 A11 (in), 24 A9 (in), 25 A8 (in), 26 DU, 27 ~{WE} (in), 28 VCC (power)

## M28LV64C200MS6
designator U?
Low-Voltage Parallel Access 64K (8K x 8) EEPROM; Note: Do Not Use pin number 26 (DU).; Published: 24-Aug-2001; LatestRevisionDate: 6-Jun-2005; LatestRevisionNote: Stylized 3D Model Added.; DatasheetDocument: Jun-1995; PackageDocument: Jul-2001; PackageReference: SO28; Publisher: Altium Limited; Code_IPC: SO28W; ComponentLink1Description: Manufacturer Link; ComponentLink1URL: http://www.st.com/
footprint SO28 (Small Outline, Plastic; 28 Leads; Body Width 7.5 mm; Pitch 1.27 mm)
3D model SO28 (Small Outline, Plastic; 28 Leads; Body Width 7.5 mm; Pitch 1.27 mm)
pins: 1 R~{B}, 2 A12 (in), 3 A7 (in), 4 A6 (in), 5 A5 (in), 6 A4 (in), 7 A3 (in), 8 A2 (in), 9 A1 (in), 10 A0 (in), 11 DQ0 (io), 12 DQ1 (io), 13 DQ2 (io), 14 GND (power), 15 DQ3 (io), 16 DQ4 (io), 17 DQ5 (io), 18 DQ6 (io), 19 DQ7 (io), 20 ~{CE} (in), 21 A10 (in), 22 ~{OE} (in), 23 A11 (in), 24 A9 (in), 25 A8 (in), 26 DU, 27 ~{WE} (in), 28 VCC (power)

## M28LV64C200N1
designator U/
Low-Voltage Parallel Access 64K (8K x 8) EEPROM; Note: Do Not Use pin number 26 (DU).; Published: 24-Aug-2001; LatestRevisionDate: 6-Jun-2005; LatestRevisionNote: Stylized 3D Model Added.; DatasheetDocument: Jun-1995; PackageDocument: Jul-1998; PackageReference: TSOP28; Publisher: Altium Limited; ComponentLink1Description: Manufacturer Link; ComponentLink1URL: http://www.st.com/
footprint TSOP28 (Shrink Small Outline; 28 Leads; Body Width 11.8 mm; Pitch 0.55 mm)
3D model TSOP28 (Shrink Small Outline; 28 Leads; Body Width 11.8 mm; Pitch 0.55 mm)
pins: 1 R~{B}, 2 A12 (in), 3 A7 (in), 4 A6 (in), 5 A5 (in), 6 A4 (in), 7 A3 (in), 8 A2 (in), 9 A1 (in), 10 A0 (in), 11 DQ0 (io), 12 DQ1 (io), 13 DQ2 (io), 14 GND (power), 15 DQ3 (io), 16 DQ4 (io), 17 DQ5 (io), 18 DQ6 (io), 19 DQ7 (io), 20 ~{CE} (in), 21 A10 (in), 22 ~{OE} (in), 23 A11 (in), 24 A9 (in), 25 A8 (in), 26 DU, 27 ~{WE} (in), 28 VCC (power)

## M28LV64C200N6
designator U/
Low-Voltage Parallel Access 64K (8K x 8) EEPROM; Note: Do Not Use pin number 26 (DU).; Published: 24-Aug-2001; LatestRevisionDate: 6-Jun-2005; LatestRevisionNote: Stylized 3D Model Added.; DatasheetDocument: Jun-1995; PackageDocument: Jul-1998; PackageReference: TSOP28; Publisher: Altium Limited; ComponentLink1Description: Manufacturer Link; ComponentLink1URL: http://www.st.com/
footprint TSOP28 (Shrink Small Outline; 28 Leads; Body Width 11.8 mm; Pitch 0.55 mm)
3D model TSOP28 (Shrink Small Outline; 28 Leads; Body Width 11.8 mm; Pitch 0.55 mm)
pins: 1 R~{B}, 2 A12 (in), 3 A7 (in), 4 A6 (in), 5 A5 (in), 6 A4 (in), 7 A3 (in), 8 A2 (in), 9 A1 (in), 10 A0 (in), 11 DQ0 (io), 12 DQ1 (io), 13 DQ2 (io), 14 GND (power), 15 DQ3 (io), 16 DQ4 (io), 17 DQ5 (io), 18 DQ6 (io), 19 DQ7 (io), 20 ~{CE} (in), 21 A10 (in), 22 ~{OE} (in), 23 A11 (in), 24 A9 (in), 25 A8 (in), 26 DU, 27 ~{WE} (in), 28 VCC (power)

## M28LV64C200P1
designator U?
Low-Voltage Parallel Access 64K (8K x 8) EEPROM; Note: Do Not Use pin number 26 (DU).; Published: 24-Aug-2001; LatestRevisionDate: 6-Jun-2005; LatestRevisionNote: Stylized 3D Model Added.; DatasheetDocument: Jun-1995; PackageDocument: Jan-2003; PackageReference: PDIP28; Publisher: Altium Limited; ComponentLink1Description: Manufacturer Link; ComponentLink1URL: http://www.st.com/
footprint PDIP28 (DIP; 28 Leads; Row Spacing 15.24 mm; Pitch 2.54 mm)
3D model PDIP28 (DIP; 28 Leads; Row Spacing 15.24 mm; Pitch 2.54 mm)
pins: 1 R~{B}, 2 A12 (in), 3 A7 (in), 4 A6 (in), 5 A5 (in), 6 A4 (in), 7 A3 (in), 8 A2 (in), 9 A1 (in), 10 A0 (in), 11 DQ0 (io), 12 DQ1 (io), 13 DQ2 (io), 14 GND (power), 15 DQ3 (io), 16 DQ4 (io), 17 DQ5 (io), 18 DQ6 (io), 19 DQ7 (io), 20 ~{CE} (in), 21 A10 (in), 22 ~{OE} (in), 23 A11 (in), 24 A9 (in), 25 A8 (in), 26 DU, 27 ~{WE} (in), 28 VCC (power)

## M28LV64C200P6
designator U?
Low-Voltage Parallel Access 64K (8K x 8) EEPROM; Note: Do Not Use pin number 26 (DU).; Published: 24-Aug-2001; LatestRevisionDate: 6-Jun-2005; LatestRevisionNote: Stylized 3D Model Added.; DatasheetDocument: Jun-1995; PackageDocument: Jan-2003; PackageReference: PDIP28; Publisher: Altium Limited; ComponentLink1Description: Manufacturer Link; ComponentLink1URL: http://www.st.com/
footprint PDIP28 (DIP; 28 Leads; Row Spacing 15.24 mm; Pitch 2.54 mm)
3D model PDIP28 (DIP; 28 Leads; Row Spacing 15.24 mm; Pitch 2.54 mm)
pins: 1 R~{B}, 2 A12 (in), 3 A7 (in), 4 A6 (in), 5 A5 (in), 6 A4 (in), 7 A3 (in), 8 A2 (in), 9 A1 (in), 10 A0 (in), 11 DQ0 (io), 12 DQ1 (io), 13 DQ2 (io), 14 GND (power), 15 DQ3 (io), 16 DQ4 (io), 17 DQ5 (io), 18 DQ6 (io), 19 DQ7 (io), 20 ~{CE} (in), 21 A10 (in), 22 ~{OE} (in), 23 A11 (in), 24 A9 (in), 25 A8 (in), 26 DU, 27 ~{WE} (in), 28 VCC (power)

## M28LV64C300K1
designator U?
Low-Voltage Parallel Access 64K (8K x 8) EEPROM; Note: Do Not Use pins 1, 17 and 30 (DU).; Published: 24-Aug-2001; LatestRevisionDate: 6-Jun-2005; LatestRevisionNote: Stylized 3D Model Added.; DatasheetDocument: Jun-1995; PackageDocument: Jun-1998; PackageReference: PLCC32; Publisher: Altium Limited; Code_JEDEC: MS-016-AE; Code_IPC: PLCC/R-32; ComponentLink1Description: Manufacturer Link; ComponentLink1URL: http://www.st.com/
footprint PLCC32 (Leaded Chip Carrier; 32 Leads; Body 11.4 x 14 mm)
3D model M28LV64-PLCC32 (Leaded Chip Carrier; 32 Leads; Body 11.4 x 14 mm)
pins: 1 DU, 2 R~{B}, 3 A12 (in), 4 A7 (in), 5 A6 (in), 6 A5 (in), 7 A4 (in), 8 A3 (in), 9 A2 (in), 10 A1 (in), 11 A0 (in), 12 NC, 13 DQ0 (io), 14 DQ1 (io), 15 DQ2 (io), 16 GND (power), 17 DU, 18 DQ3 (io), 19 DQ4 (io), 20 DQ5 (io), 21 DQ6 (io), 22 DQ7 (io), 23 ~{CE} (in), 24 A10 (in), 25 ~{OE} (in), 26 NC, 27 A11 (in), 28 A9 (in), 29 A8 (in), 30 DU, 31 ~{WE} (in), 32 VCC (power)

## M28LV64C300K6
designator U?
Low-Voltage Parallel Access 64K (8K x 8) EEPROM; Note: Do Not Use pins 1, 17 and 30 (DU).; Published: 24-Aug-2001; LatestRevisionDate: 6-Jun-2005; LatestRevisionNote: Stylized 3D Model Added.; DatasheetDocument: Jun-1995; PackageDocument: Jun-1998; PackageReference: PLCC32; Publisher: Altium Limited; Code_JEDEC: MS-016-AE; Code_IPC: PLCC/R-32; ComponentLink1Description: Manufacturer Link; ComponentLink1URL: http://www.st.com/
footprint PLCC32 (Leaded Chip Carrier; 32 Leads; Body 11.4 x 14 mm)
3D model M28LV64-PLCC32 (Leaded Chip Carrier; 32 Leads; Body 11.4 x 14 mm)
pins: 1 DU, 2 R~{B}, 3 A12 (in), 4 A7 (in), 5 A6 (in), 6 A5 (in), 7 A4 (in), 8 A3 (in), 9 A2 (in), 10 A1 (in), 11 A0 (in), 12 NC, 13 DQ0 (io), 14 DQ1 (io), 15 DQ2 (io), 16 GND (power), 17 DU, 18 DQ3 (io), 19 DQ4 (io), 20 DQ5 (io), 21 DQ6 (io), 22 DQ7 (io), 23 ~{CE} (in), 24 A10 (in), 25 ~{OE} (in), 26 NC, 27 A11 (in), 28 A9 (in), 29 A8 (in), 30 DU, 31 ~{WE} (in), 32 VCC (power)

## M28LV64C300MS1
designator U?
Low-Voltage Parallel Access 64K (8K x 8) EEPROM; Note: Do Not Use pin number 26 (DU).; Published: 24-Aug-2001; LatestRevisionDate: 6-Jun-2005; LatestRevisionNote: Stylized 3D Model Added.; DatasheetDocument: Jun-1995; PackageDocument: Jul-2001; PackageReference: SO28; Publisher: Altium Limited; Code_IPC: SO28W; ComponentLink1Description: Manufacturer Link; ComponentLink1URL: http://www.st.com/
footprint SO28 (Small Outline, Plastic; 28 Leads; Body Width 7.5 mm; Pitch 1.27 mm)
3D model SO28 (Small Outline, Plastic; 28 Leads; Body Width 7.5 mm; Pitch 1.27 mm)
pins: 1 R~{B}, 2 A12 (in), 3 A7 (in), 4 A6 (in), 5 A5 (in), 6 A4 (in), 7 A3 (in), 8 A2 (in), 9 A1 (in), 10 A0 (in), 11 DQ0 (io), 12 DQ1 (io), 13 DQ2 (io), 14 GND (power), 15 DQ3 (io), 16 DQ4 (io), 17 DQ5 (io), 18 DQ6 (io), 19 DQ7 (io), 20 ~{CE} (in), 21 A10 (in), 22 ~{OE} (in), 23 A11 (in), 24 A9 (in), 25 A8 (in), 26 DU, 27 ~{WE} (in), 28 VCC (power)

## M28LV64C300MS6
designator U?
Low-Voltage Parallel Access 64K (8K x 8) EEPROM; Note: Do Not Use pin number 26 (DU).; Published: 24-Aug-2001; LatestRevisionDate: 6-Jun-2005; LatestRevisionNote: Stylized 3D Model Added.; DatasheetDocument: Jun-1995; PackageDocument: Jul-2001; PackageReference: SO28; Publisher: Altium Limited; Code_IPC: SO28W; ComponentLink1Description: Manufacturer Link; ComponentLink1URL: http://www.st.com/
footprint SO28 (Small Outline, Plastic; 28 Leads; Body Width 7.5 mm; Pitch 1.27 mm)
3D model SO28 (Small Outline, Plastic; 28 Leads; Body Width 7.5 mm; Pitch 1.27 mm)
pins: 1 R~{B}, 2 A12 (in), 3 A7 (in), 4 A6 (in), 5 A5 (in), 6 A4 (in), 7 A3 (in), 8 A2 (in), 9 A1 (in), 10 A0 (in), 11 DQ0 (io), 12 DQ1 (io), 13 DQ2 (io), 14 GND (power), 15 DQ3 (io), 16 DQ4 (io), 17 DQ5 (io), 18 DQ6 (io), 19 DQ7 (io), 20 ~{CE} (in), 21 A10 (in), 22 ~{OE} (in), 23 A11 (in), 24 A9 (in), 25 A8 (in), 26 DU, 27 ~{WE} (in), 28 VCC (power)

## M28LV64C300N1
designator U/
Low-Voltage Parallel Access 64K (8K x 8) EEPROM; Note: Do Not Use pin number 26 (DU).; Published: 24-Aug-2001; LatestRevisionDate: 6-Jun-2005; LatestRevisionNote: Stylized 3D Model Added.; DatasheetDocument: Jun-1995; PackageDocument: Jul-1998; PackageReference: TSOP28; Publisher: Altium Limited; ComponentLink1Description: Manufacturer Link; ComponentLink1URL: http://www.st.com/
footprint TSOP28 (Shrink Small Outline; 28 Leads; Body Width 11.8 mm; Pitch 0.55 mm)
3D model TSOP28 (Shrink Small Outline; 28 Leads; Body Width 11.8 mm; Pitch 0.55 mm)
pins: 1 R~{B}, 2 A12 (in), 3 A7 (in), 4 A6 (in), 5 A5 (in), 6 A4 (in), 7 A3 (in), 8 A2 (in), 9 A1 (in), 10 A0 (in), 11 DQ0 (io), 12 DQ1 (io), 13 DQ2 (io), 14 GND (power), 15 DQ3 (io), 16 DQ4 (io), 17 DQ5 (io), 18 DQ6 (io), 19 DQ7 (io), 20 ~{CE} (in), 21 A10 (in), 22 ~{OE} (in), 23 A11 (in), 24 A9 (in), 25 A8 (in), 26 DU, 27 ~{WE} (in), 28 VCC (power)

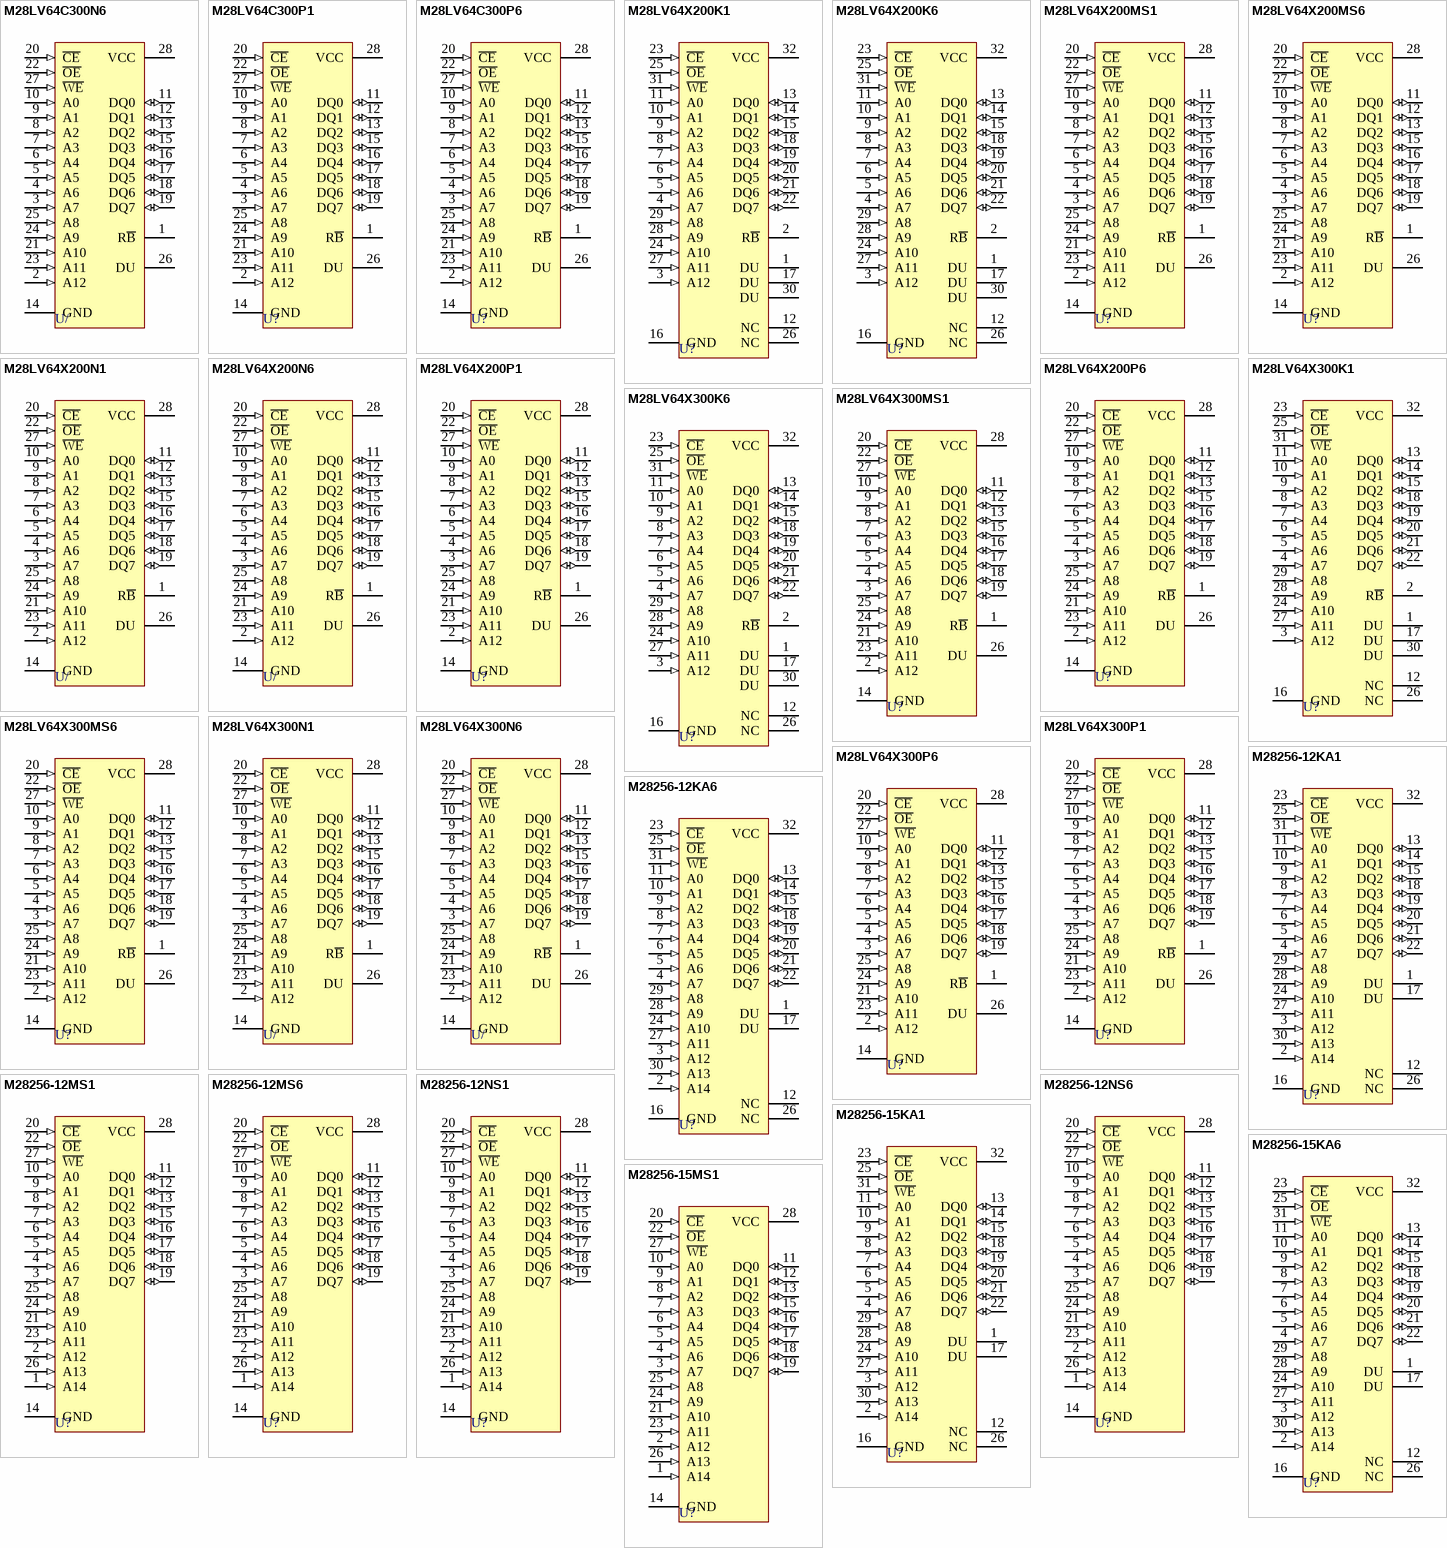
[diagram p9: symbols M28LV64C300N6 to M28256-15MS1]

## M28LV64C300N6
designator U/
Low-Voltage Parallel Access 64K (8K x 8) EEPROM; Note: Do Not Use pin number 26 (DU).; Published: 24-Aug-2001; LatestRevisionDate: 6-Jun-2005; LatestRevisionNote: Stylized 3D Model Added.; DatasheetDocument: Jun-1995; PackageDocument: Jul-1998; PackageReference: TSOP28; Publisher: Altium Limited; ComponentLink1Description: Manufacturer Link; ComponentLink1URL: http://www.st.com/
footprint TSOP28 (Shrink Small Outline; 28 Leads; Body Width 11.8 mm; Pitch 0.55 mm)
3D model TSOP28 (Shrink Small Outline; 28 Leads; Body Width 11.8 mm; Pitch 0.55 mm)
pins: 1 R~{B}, 2 A12 (in), 3 A7 (in), 4 A6 (in), 5 A5 (in), 6 A4 (in), 7 A3 (in), 8 A2 (in), 9 A1 (in), 10 A0 (in), 11 DQ0 (io), 12 DQ1 (io), 13 DQ2 (io), 14 GND (power), 15 DQ3 (io), 16 DQ4 (io), 17 DQ5 (io), 18 DQ6 (io), 19 DQ7 (io), 20 ~{CE} (in), 21 A10 (in), 22 ~{OE} (in), 23 A11 (in), 24 A9 (in), 25 A8 (in), 26 DU, 27 ~{WE} (in), 28 VCC (power)

## M28LV64C300P1
designator U?
Low-Voltage Parallel Access 64K (8K x 8) EEPROM; Note: Do Not Use pin number 26 (DU).; Published: 24-Aug-2001; LatestRevisionDate: 6-Jun-2005; LatestRevisionNote: Stylized 3D Model Added.; DatasheetDocument: Jun-1995; PackageDocument: Jan-2003; PackageReference: PDIP28; Publisher: Altium Limited; ComponentLink1Description: Manufacturer Link; ComponentLink1URL: http://www.st.com/
footprint PDIP28 (DIP; 28 Leads; Row Spacing 15.24 mm; Pitch 2.54 mm)
3D model PDIP28 (DIP; 28 Leads; Row Spacing 15.24 mm; Pitch 2.54 mm)
pins: 1 R~{B}, 2 A12 (in), 3 A7 (in), 4 A6 (in), 5 A5 (in), 6 A4 (in), 7 A3 (in), 8 A2 (in), 9 A1 (in), 10 A0 (in), 11 DQ0 (io), 12 DQ1 (io), 13 DQ2 (io), 14 GND (power), 15 DQ3 (io), 16 DQ4 (io), 17 DQ5 (io), 18 DQ6 (io), 19 DQ7 (io), 20 ~{CE} (in), 21 A10 (in), 22 ~{OE} (in), 23 A11 (in), 24 A9 (in), 25 A8 (in), 26 DU, 27 ~{WE} (in), 28 VCC (power)

## M28LV64C300P6
designator U?
Low-Voltage Parallel Access 64K (8K x 8) EEPROM; Note: Do Not Use pin number 26 (DU).; Published: 24-Aug-2001; LatestRevisionDate: 6-Jun-2005; LatestRevisionNote: Stylized 3D Model Added.; DatasheetDocument: Jun-1995; PackageDocument: Jan-2003; PackageReference: PDIP28; Publisher: Altium Limited; ComponentLink1Description: Manufacturer Link; ComponentLink1URL: http://www.st.com/
footprint PDIP28 (DIP; 28 Leads; Row Spacing 15.24 mm; Pitch 2.54 mm)
3D model PDIP28 (DIP; 28 Leads; Row Spacing 15.24 mm; Pitch 2.54 mm)
pins: 1 R~{B}, 2 A12 (in), 3 A7 (in), 4 A6 (in), 5 A5 (in), 6 A4 (in), 7 A3 (in), 8 A2 (in), 9 A1 (in), 10 A0 (in), 11 DQ0 (io), 12 DQ1 (io), 13 DQ2 (io), 14 GND (power), 15 DQ3 (io), 16 DQ4 (io), 17 DQ5 (io), 18 DQ6 (io), 19 DQ7 (io), 20 ~{CE} (in), 21 A10 (in), 22 ~{OE} (in), 23 A11 (in), 24 A9 (in), 25 A8 (in), 26 DU, 27 ~{WE} (in), 28 VCC (power)

## M28LV64X200K1
designator U?
Low-Voltage Parallel Access 64K (8K x 8) EEPROM; Note: Do Not Use pins 1, 17 and 30 (DU).; Published: 24-Aug-2001; LatestRevisionDate: 6-Jun-2005; LatestRevisionNote: Stylized 3D Model Added.; DatasheetDocument: Jun-1995; PackageDocument: Jun-1998; PackageReference: PLCC32; Publisher: Altium Limited; Code_JEDEC: MS-016-AE; Code_IPC: PLCC/R-32; ComponentLink1Description: Manufacturer Link; ComponentLink1URL: http://www.st.com/
footprint PLCC32 (Leaded Chip Carrier; 32 Leads; Body 11.4 x 14 mm)
3D model M28LV64-PLCC32 (Leaded Chip Carrier; 32 Leads; Body 11.4 x 14 mm)
pins: 1 DU, 2 R~{B}, 3 A12 (in), 4 A7 (in), 5 A6 (in), 6 A5 (in), 7 A4 (in), 8 A3 (in), 9 A2 (in), 10 A1 (in), 11 A0 (in), 12 NC, 13 DQ0 (io), 14 DQ1 (io), 15 DQ2 (io), 16 GND (power), 17 DU, 18 DQ3 (io), 19 DQ4 (io), 20 DQ5 (io), 21 DQ6 (io), 22 DQ7 (io), 23 ~{CE} (in), 24 A10 (in), 25 ~{OE} (in), 26 NC, 27 A11 (in), 28 A9 (in), 29 A8 (in), 30 DU, 31 ~{WE} (in), 32 VCC (power)

## M28LV64X200K6
designator U?
Low-Voltage Parallel Access 64K (8K x 8) EEPROM; Note: Do Not Use pins 1, 17 and 30 (DU).; Published: 24-Aug-2001; LatestRevisionDate: 6-Jun-2005; LatestRevisionNote: Stylized 3D Model Added.; DatasheetDocument: Jun-1995; PackageDocument: Jun-1998; PackageReference: PLCC32; Publisher: Altium Limited; Code_JEDEC: MS-016-AE; Code_IPC: PLCC/R-32; ComponentLink1Description: Manufacturer Link; ComponentLink1URL: http://www.st.com/
footprint PLCC32 (Leaded Chip Carrier; 32 Leads; Body 11.4 x 14 mm)
3D model M28LV64-PLCC32 (Leaded Chip Carrier; 32 Leads; Body 11.4 x 14 mm)
pins: 1 DU, 2 R~{B}, 3 A12 (in), 4 A7 (in), 5 A6 (in), 6 A5 (in), 7 A4 (in), 8 A3 (in), 9 A2 (in), 10 A1 (in), 11 A0 (in), 12 NC, 13 DQ0 (io), 14 DQ1 (io), 15 DQ2 (io), 16 GND (power), 17 DU, 18 DQ3 (io), 19 DQ4 (io), 20 DQ5 (io), 21 DQ6 (io), 22 DQ7 (io), 23 ~{CE} (in), 24 A10 (in), 25 ~{OE} (in), 26 NC, 27 A11 (in), 28 A9 (in), 29 A8 (in), 30 DU, 31 ~{WE} (in), 32 VCC (power)

## M28LV64X200MS1
designator U?
Low-Voltage Parallel Access 64K (8K x 8) EEPROM; Note: Do Not Use pin number 26 (DU).; Published: 24-Aug-2001; LatestRevisionDate: 6-Jun-2005; LatestRevisionNote: Stylized 3D Model Added.; DatasheetDocument: Jun-1995; PackageDocument: Jul-2001; PackageReference: SO28; Publisher: Altium Limited; Code_IPC: SO28W; ComponentLink1Description: Manufacturer Link; ComponentLink1URL: http://www.st.com/
footprint SO28 (Small Outline, Plastic; 28 Leads; Body Width 7.5 mm; Pitch 1.27 mm)
3D model SO28 (Small Outline, Plastic; 28 Leads; Body Width 7.5 mm; Pitch 1.27 mm)
pins: 1 R~{B}, 2 A12 (in), 3 A7 (in), 4 A6 (in), 5 A5 (in), 6 A4 (in), 7 A3 (in), 8 A2 (in), 9 A1 (in), 10 A0 (in), 11 DQ0 (io), 12 DQ1 (io), 13 DQ2 (io), 14 GND (power), 15 DQ3 (io), 16 DQ4 (io), 17 DQ5 (io), 18 DQ6 (io), 19 DQ7 (io), 20 ~{CE} (in), 21 A10 (in), 22 ~{OE} (in), 23 A11 (in), 24 A9 (in), 25 A8 (in), 26 DU, 27 ~{WE} (in), 28 VCC (power)

## M28LV64X200MS6
designator U?
Low-Voltage Parallel Access 64K (8K x 8) EEPROM; Note: Do Not Use pin number 26 (DU).; Published: 24-Aug-2001; LatestRevisionDate: 6-Jun-2005; LatestRevisionNote: Stylized 3D Model Added.; DatasheetDocument: Jun-1995; PackageDocument: Jul-2001; PackageReference: SO28; Publisher: Altium Limited; Code_IPC: SO28W; ComponentLink1Description: Manufacturer Link; ComponentLink1URL: http://www.st.com/
footprint SO28 (Small Outline, Plastic; 28 Leads; Body Width 7.5 mm; Pitch 1.27 mm)
3D model SO28 (Small Outline, Plastic; 28 Leads; Body Width 7.5 mm; Pitch 1.27 mm)
pins: 1 R~{B}, 2 A12 (in), 3 A7 (in), 4 A6 (in), 5 A5 (in), 6 A4 (in), 7 A3 (in), 8 A2 (in), 9 A1 (in), 10 A0 (in), 11 DQ0 (io), 12 DQ1 (io), 13 DQ2 (io), 14 GND (power), 15 DQ3 (io), 16 DQ4 (io), 17 DQ5 (io), 18 DQ6 (io), 19 DQ7 (io), 20 ~{CE} (in), 21 A10 (in), 22 ~{OE} (in), 23 A11 (in), 24 A9 (in), 25 A8 (in), 26 DU, 27 ~{WE} (in), 28 VCC (power)

## M28LV64X200N1
designator U/
Low-Voltage Parallel Access 64K (8K x 8) EEPROM; Note: Do Not Use pin number 26 (DU).; Published: 24-Aug-2001; LatestRevisionDate: 6-Jun-2005; LatestRevisionNote: Stylized 3D Model Added.; DatasheetDocument: Jun-1995; PackageDocument: Jul-1998; PackageReference: TSOP28; Publisher: Altium Limited; ComponentLink1Description: Manufacturer Link; ComponentLink1URL: http://www.st.com/
footprint TSOP28 (Shrink Small Outline; 28 Leads; Body Width 11.8 mm; Pitch 0.55 mm)
3D model TSOP28 (Shrink Small Outline; 28 Leads; Body Width 11.8 mm; Pitch 0.55 mm)
pins: 1 R~{B}, 2 A12 (in), 3 A7 (in), 4 A6 (in), 5 A5 (in), 6 A4 (in), 7 A3 (in), 8 A2 (in), 9 A1 (in), 10 A0 (in), 11 DQ0 (io), 12 DQ1 (io), 13 DQ2 (io), 14 GND (power), 15 DQ3 (io), 16 DQ4 (io), 17 DQ5 (io), 18 DQ6 (io), 19 DQ7 (io), 20 ~{CE} (in), 21 A10 (in), 22 ~{OE} (in), 23 A11 (in), 24 A9 (in), 25 A8 (in), 26 DU, 27 ~{WE} (in), 28 VCC (power)

## M28LV64X200N6
designator U/
Low-Voltage Parallel Access 64K (8K x 8) EEPROM; Note: Do Not Use pin number 26 (DU).; Published: 24-Aug-2001; LatestRevisionDate: 6-Jun-2005; LatestRevisionNote: Stylized 3D Model Added.; DatasheetDocument: Jun-1995; PackageDocument: Jul-1998; PackageReference: TSOP28; Publisher: Altium Limited; ComponentLink1Description: Manufacturer Link; ComponentLink1URL: http://www.st.com/
footprint TSOP28 (Shrink Small Outline; 28 Leads; Body Width 11.8 mm; Pitch 0.55 mm)
3D model TSOP28 (Shrink Small Outline; 28 Leads; Body Width 11.8 mm; Pitch 0.55 mm)
pins: 1 R~{B}, 2 A12 (in), 3 A7 (in), 4 A6 (in), 5 A5 (in), 6 A4 (in), 7 A3 (in), 8 A2 (in), 9 A1 (in), 10 A0 (in), 11 DQ0 (io), 12 DQ1 (io), 13 DQ2 (io), 14 GND (power), 15 DQ3 (io), 16 DQ4 (io), 17 DQ5 (io), 18 DQ6 (io), 19 DQ7 (io), 20 ~{CE} (in), 21 A10 (in), 22 ~{OE} (in), 23 A11 (in), 24 A9 (in), 25 A8 (in), 26 DU, 27 ~{WE} (in), 28 VCC (power)

## M28LV64X200P1
designator U?
Low-Voltage Parallel Access 64K (8K x 8) EEPROM; Note: Do Not Use pin number 26 (DU).; Published: 24-Aug-2001; LatestRevisionDate: 6-Jun-2005; LatestRevisionNote: Stylized 3D Model Added.; DatasheetDocument: Jun-1995; PackageDocument: Jan-2003; PackageReference: PDIP28; Publisher: Altium Limited; ComponentLink1Description: Manufacturer Link; ComponentLink1URL: http://www.st.com/
footprint PDIP28 (DIP; 28 Leads; Row Spacing 15.24 mm; Pitch 2.54 mm)
3D model PDIP28 (DIP; 28 Leads; Row Spacing 15.24 mm; Pitch 2.54 mm)
pins: 1 R~{B}, 2 A12 (in), 3 A7 (in), 4 A6 (in), 5 A5 (in), 6 A4 (in), 7 A3 (in), 8 A2 (in), 9 A1 (in), 10 A0 (in), 11 DQ0 (io), 12 DQ1 (io), 13 DQ2 (io), 14 GND (power), 15 DQ3 (io), 16 DQ4 (io), 17 DQ5 (io), 18 DQ6 (io), 19 DQ7 (io), 20 ~{CE} (in), 21 A10 (in), 22 ~{OE} (in), 23 A11 (in), 24 A9 (in), 25 A8 (in), 26 DU, 27 ~{WE} (in), 28 VCC (power)

## M28LV64X200P6
designator U?
Low-Voltage Parallel Access 64K (8K x 8) EEPROM; Note: Do Not Use pin number 26 (DU).; Published: 24-Aug-2001; LatestRevisionDate: 6-Jun-2005; LatestRevisionNote: Stylized 3D Model Added.; DatasheetDocument: Jun-1995; PackageDocument: Jan-2003; PackageReference: PDIP28; Publisher: Altium Limited; ComponentLink1Description: Manufacturer Link; ComponentLink1URL: http://www.st.com/
footprint PDIP28 (DIP; 28 Leads; Row Spacing 15.24 mm; Pitch 2.54 mm)
3D model PDIP28 (DIP; 28 Leads; Row Spacing 15.24 mm; Pitch 2.54 mm)
pins: 1 R~{B}, 2 A12 (in), 3 A7 (in), 4 A6 (in), 5 A5 (in), 6 A4 (in), 7 A3 (in), 8 A2 (in), 9 A1 (in), 10 A0 (in), 11 DQ0 (io), 12 DQ1 (io), 13 DQ2 (io), 14 GND (power), 15 DQ3 (io), 16 DQ4 (io), 17 DQ5 (io), 18 DQ6 (io), 19 DQ7 (io), 20 ~{CE} (in), 21 A10 (in), 22 ~{OE} (in), 23 A11 (in), 24 A9 (in), 25 A8 (in), 26 DU, 27 ~{WE} (in), 28 VCC (power)

## M28LV64X300K1
designator U?
Low-Voltage Parallel Access 64K (8K x 8) EEPROM; Note: Do Not Use pins 1, 17 and 30 (DU).; Published: 24-Aug-2001; LatestRevisionDate: 6-Jun-2005; LatestRevisionNote: Stylized 3D Model Added.; DatasheetDocument: Jun-1995; PackageDocument: Jun-1998; PackageReference: PLCC32; Publisher: Altium Limited; Code_JEDEC: MS-016-AE; Code_IPC: PLCC/R-32; ComponentLink1Description: Manufacturer Link; ComponentLink1URL: http://www.st.com/
footprint PLCC32 (Leaded Chip Carrier; 32 Leads; Body 11.4 x 14 mm)
3D model M28LV64-PLCC32 (Leaded Chip Carrier; 32 Leads; Body 11.4 x 14 mm)
pins: 1 DU, 2 R~{B}, 3 A12 (in), 4 A7 (in), 5 A6 (in), 6 A5 (in), 7 A4 (in), 8 A3 (in), 9 A2 (in), 10 A1 (in), 11 A0 (in), 12 NC, 13 DQ0 (io), 14 DQ1 (io), 15 DQ2 (io), 16 GND (power), 17 DU, 18 DQ3 (io), 19 DQ4 (io), 20 DQ5 (io), 21 DQ6 (io), 22 DQ7 (io), 23 ~{CE} (in), 24 A10 (in), 25 ~{OE} (in), 26 NC, 27 A11 (in), 28 A9 (in), 29 A8 (in), 30 DU, 31 ~{WE} (in), 32 VCC (power)

## M28LV64X300K6
designator U?
Low-Voltage Parallel Access 64K (8K x 8) EEPROM; Note: Do Not Use pins 1, 17 and 30 (DU).; Published: 24-Aug-2001; LatestRevisionDate: 6-Jun-2005; LatestRevisionNote: Stylized 3D Model Added.; DatasheetDocument: Jun-1995; PackageDocument: Jun-1998; PackageReference: PLCC32; Publisher: Altium Limited; Code_JEDEC: MS-016-AE; Code_IPC: PLCC/R-32; ComponentLink1Description: Manufacturer Link; ComponentLink1URL: http://www.st.com/
footprint PLCC32 (Leaded Chip Carrier; 32 Leads; Body 11.4 x 14 mm)
3D model M28LV64-PLCC32 (Leaded Chip Carrier; 32 Leads; Body 11.4 x 14 mm)
pins: 1 DU, 2 R~{B}, 3 A12 (in), 4 A7 (in), 5 A6 (in), 6 A5 (in), 7 A4 (in), 8 A3 (in), 9 A2 (in), 10 A1 (in), 11 A0 (in), 12 NC, 13 DQ0 (io), 14 DQ1 (io), 15 DQ2 (io), 16 GND (power), 17 DU, 18 DQ3 (io), 19 DQ4 (io), 20 DQ5 (io), 21 DQ6 (io), 22 DQ7 (io), 23 ~{CE} (in), 24 A10 (in), 25 ~{OE} (in), 26 NC, 27 A11 (in), 28 A9 (in), 29 A8 (in), 30 DU, 31 ~{WE} (in), 32 VCC (power)

## M28LV64X300MS1
designator U?
Low-Voltage Parallel Access 64K (8K x 8) EEPROM; Note: Do Not Use pin number 26 (DU).; Published: 24-Aug-2001; LatestRevisionDate: 6-Jun-2005; LatestRevisionNote: Stylized 3D Model Added.; DatasheetDocument: Jun-1995; PackageDocument: Jul-2001; PackageReference: SO28; Publisher: Altium Limited; Code_IPC: SO28W; ComponentLink1Description: Manufacturer Link; ComponentLink1URL: http://www.st.com/
footprint SO28 (Small Outline, Plastic; 28 Leads; Body Width 7.5 mm; Pitch 1.27 mm)
3D model SO28 (Small Outline, Plastic; 28 Leads; Body Width 7.5 mm; Pitch 1.27 mm)
pins: 1 R~{B}, 2 A12 (in), 3 A7 (in), 4 A6 (in), 5 A5 (in), 6 A4 (in), 7 A3 (in), 8 A2 (in), 9 A1 (in), 10 A0 (in), 11 DQ0 (io), 12 DQ1 (io), 13 DQ2 (io), 14 GND (power), 15 DQ3 (io), 16 DQ4 (io), 17 DQ5 (io), 18 DQ6 (io), 19 DQ7 (io), 20 ~{CE} (in), 21 A10 (in), 22 ~{OE} (in), 23 A11 (in), 24 A9 (in), 25 A8 (in), 26 DU, 27 ~{WE} (in), 28 VCC (power)